# Altium schematic symbol library CON_JST_.SchLib: 33 symbols (part 2 of 2)
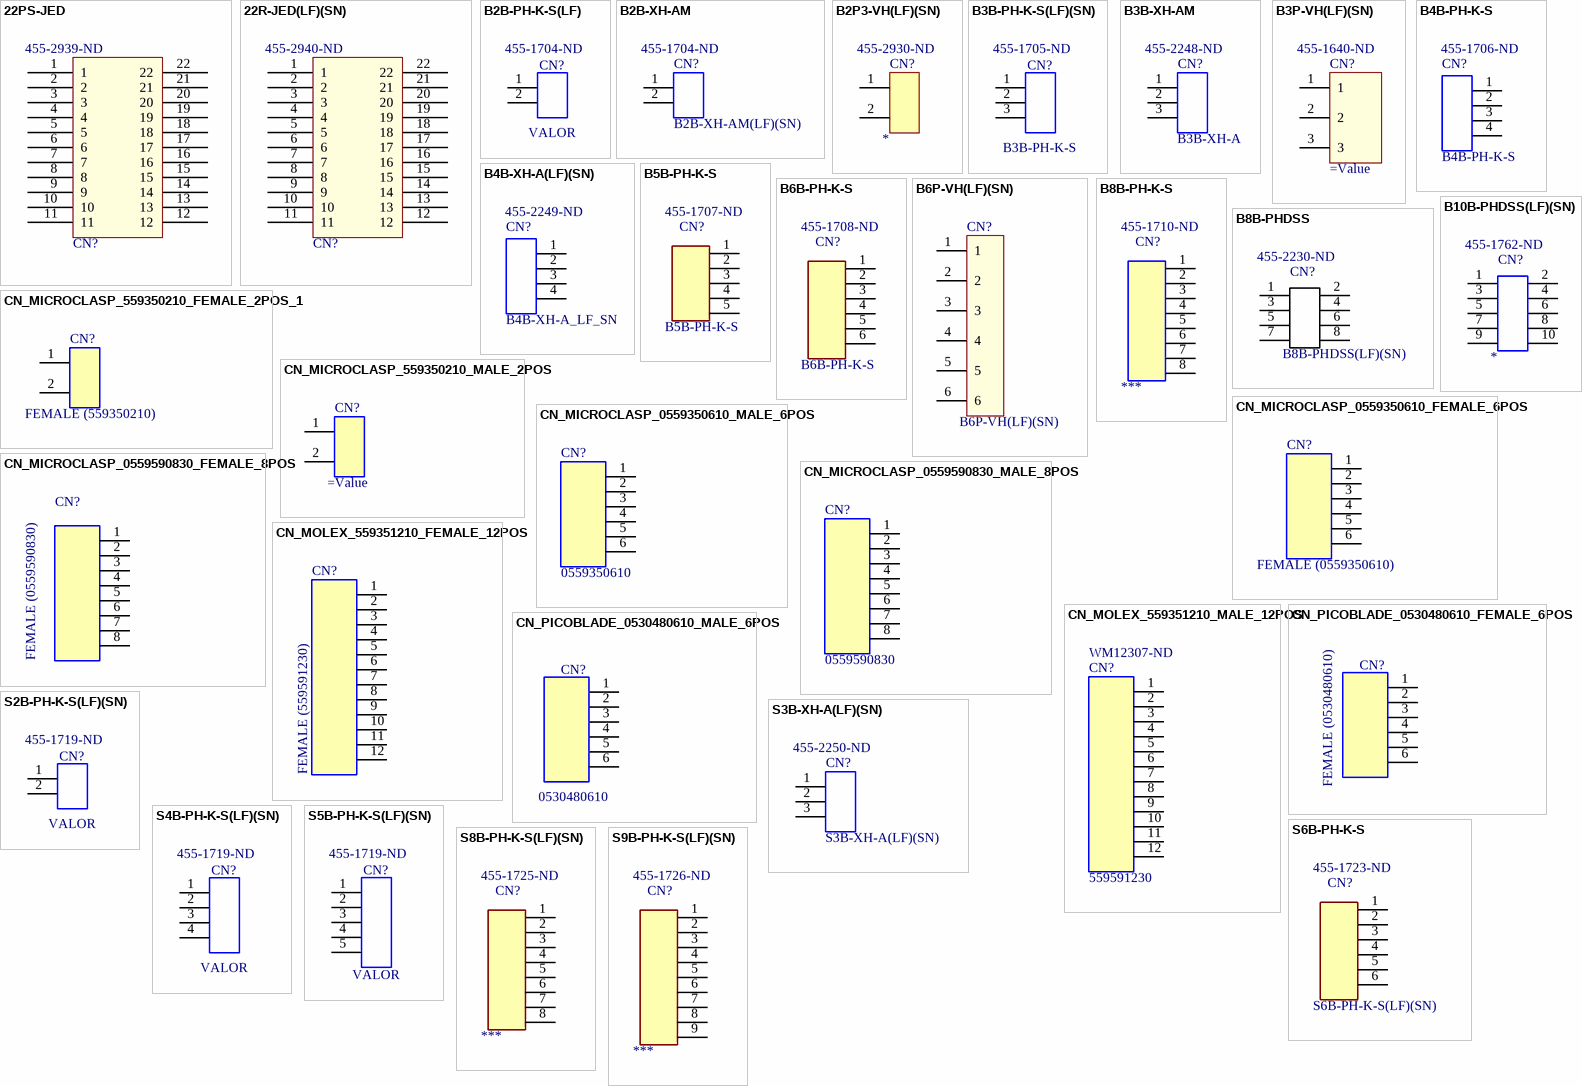
[diagram p1: symbols 22PS-JED to S9B-PH-K-S(LF)(SN)]

## S9B-PH-K-S(LF)(SN)
designator CN?, comment ***  Supplier Part Number 1: 455-1726-ND
CONN HEADER R/A 9POS 2MM; MPN: S9B-PH-K-S(LF)(SN); Manufacturer: JST; Fabricante: JST Sales; Current Rating: 2A; Number of Positions: 9; Gender: Male; Connector Type: Male Pin; Voltage Rating: 100V; Pitch: 0.079inch; Footprint: PTH 9Pin; Value: ***; ComponentLink1Description: LOJA; ComponentLink1URL: https://www.digikey.com/product-detail/en/jst-sales-america-inc/S8B-PH-K-S-LF-SN/455-1725-ND/926632; Supplier 1: Digi-Key; Manufacturer Part Number: S9B-PH-K-S(LF)(SN); RoHS: Yes; Category: Connectors; Stock 1: 6877; Pricing 1: 1=0,44000, 10=0,41300, 100=0,28890, 500=0,24766, 1000=0,20639, 5000=0,17690, 10000=0,16511 (USD); Mount: Through Hole; Number of Pins: 9; Contact Material: Tin,Brass; Contact Plating: Tin; Housing Color: Natural; Color: Natural; Packaging: Bulk; Termination: Solder; Fastening Type: Detent; Number of Contacts: 9; Orientation: Right Angle; Number of Rows: 1; Length: 19.9mm; Height: 9.4mm; Width: 4.5mm; Contact Mating Length: 0.13inch; Lead Free: Lead Free; ComponentLink2URL: https://datasheet.ciiva.com/712/eph-712619.pdf?src-supplier=Digi-Key; ComponentLink2Description: https://datasheet.ciiva.com/712/eph-712619.pdf?src-supplier=Digi-Key; ComponentLink3URL: https://datasheet.ciiva.com/16484/eph-16484686.pdf?src-supplier=Future+Electronics; ComponentLink3Description: https://datasheet.ciiva.com/16484/eph-16484686.pdf?src-supplier=Future+Electronics; ComponentLink4URL: https://datasheet.ciiva.com/43491/740435-da-01-en-stiftleiste-gewinkelt-9-pol-rm2-0-43491990.pdf?src-supplier=Conrad; ComponentLink4Description: https://datasheet.ciiva.com/43491/740435-da-01-en-stiftleiste-gewinkelt-9-pol-rm2-0-43491990.pdf?src-supplier=Conrad
footprint JST_S9B-PH-K-S R/A (CONN HEADER R/A 9POS 2MM)
pins: 1, 2, 3, 4, 5, 6, 7, 8, 9